# Altium footprint library Conn_Molex_22-29-2031_eec_MFG.PcbLib: 1 footprints
Each footprint in its own frame and in the unit in brackets; x right, y up, seen from the top. Pads: shape width x height; smd on the part's side, far side on the other; paste and mask are expansions set on the pad; w line width, h text height; cw(c..) or ccw(c..) is an arc to the next point about the centre after c.
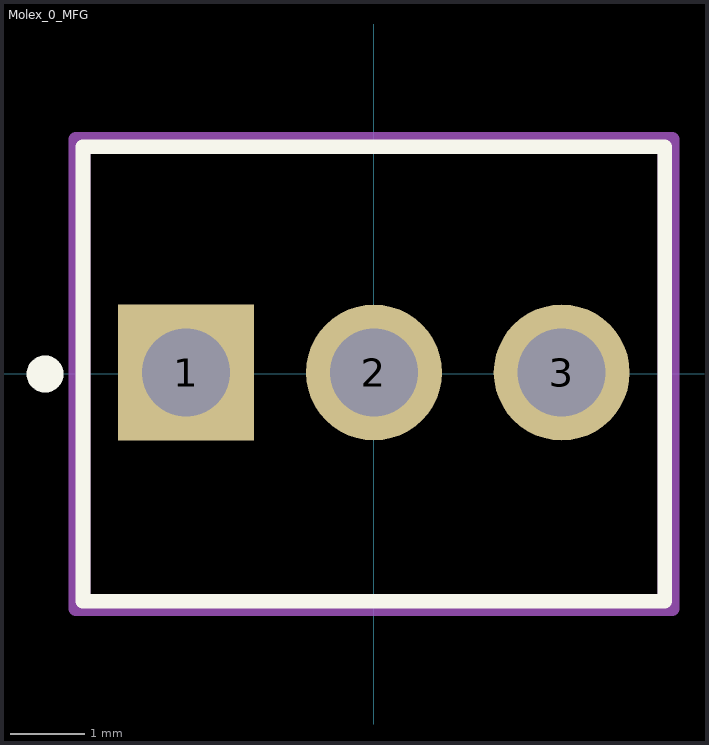
[diagram p0: the footprint, top view; thin cyan lines are the x and y axes]

## Molex_0_MFG [mm]
pads (3):
  rect 1.84x1.84 hole 1.19 paste-1000 mask+0: 1(-2.54,0.02)
  round 1.84 hole 1.19 paste-1000 mask+0: 2(0,0.02) 3(2.54,0.02)
Top Overlay:
  circle w0.25: c-4.45,0 r0.125
  lines w0.2: -3.935,-3.075 3.935,-3.075 3.935,3.075 -3.935,3.075 -3.935,-3.075
Mechanical 10:
  lines w0.2: -4.035,-3.175 4.035,-3.175 4.035,3.175 -4.035,3.175 -4.035,-3.175
  text ".Designator" at 0,0 h1
Mechanical 12:
  lines w0.2: -3.935,-3.075 3.935,-3.075 3.935,3.075 -3.935,3.075 -3.935,-3.075
Mechanical 15:
  lines w0.1: -0.5,0 0.5,0 ; 0,-0.5 0,0.5
  lines w0.2: -4.035,-3.175 4.035,-3.175 4.035,3.175 -4.035,3.175 -4.035,-3.175
3D body "Conn_Molex_22-29-2031_eec.STEP": height 0.25, standoff 0, extent -4.035,-3.175 4.035,3.175